# EAGLE library part MSP432E401Y_80PIN_BOOSTER (library MSP432E401Y_Booster)
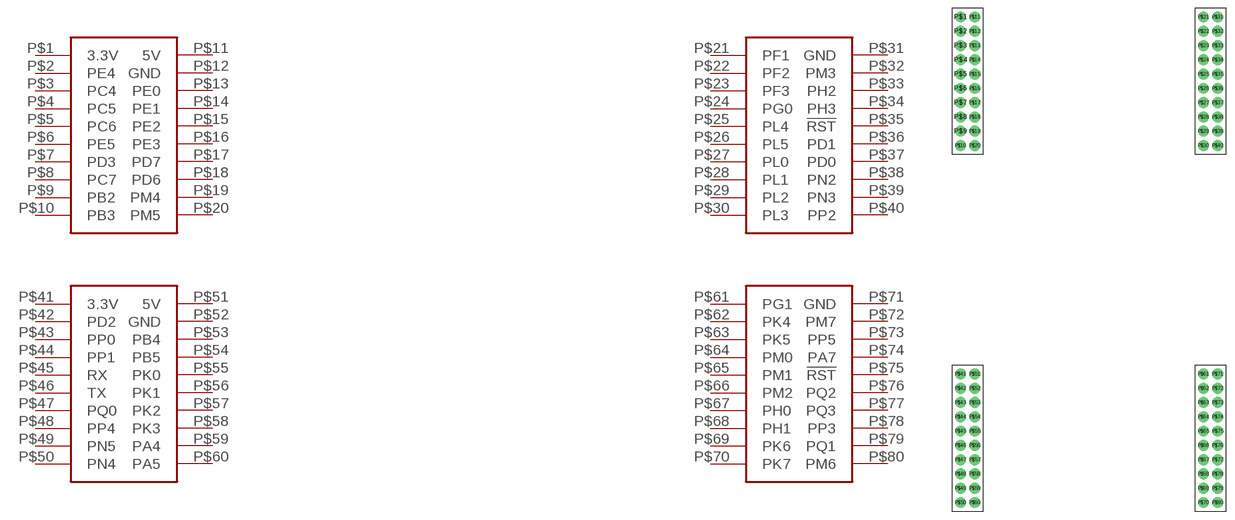
[diagram p0: symbol with the pads of MSP432E401Y_80PIN_BOOSTER; footprint MSP432E401Y_80PIN_BOOSTER]

Designator prefix -

## MSP432E401Y_80PIN_BOOSTER  [MSP432E401Y_80PIN_BOOSTER]
P$1  3.3V
P$2  PE4
P$3  PC4
P$4  PC5
P$5  PC6
P$6  PE5
P$7  PD3
P$8  PC7
P$9  PB2
P$10  PB3
P$11  5V
P$12  GND
P$13  PE0
P$14  PE1
P$15  PE2
P$16  PE3
P$17  PD7
P$18  PD6
P$19  PM4
P$20  PM5
P$21  PF1
P$22  PF2
P$23  PF3
P$24  PG0
P$25  PL4
P$26  PL5
P$27  PL0
P$28  PL1
P$29  PL2
P$30  PL3
P$31  GND
P$32  PM3
P$33  PH2
P$34  PH3
P$35  !RST
P$36  PD1
P$37  PD0
P$38  PN2
P$39  PN3
P$40  PP2
P$41  3.3V
P$42  PD2
P$43  PP0
P$44  PP1
P$45  RX
P$46  TX
P$47  PQ0
P$48  PP4
P$49  PN5
P$50  PN4
P$51  5V
P$52  GND
P$53  PB4
P$54  PB5
P$55  PK0
P$56  PK1
P$57  PK2
P$58  PK3
P$59  PA4
P$60  PA5
P$61  PG1
P$62  PK4
P$63  PK5
P$64  PM0
P$65  PM1
P$66  PM2
P$67  PH0
P$68  PH1
P$69  PK6
P$70  PK7
P$71  GND
P$72  PM7
P$73  PP5
P$74  PA7
P$75  !RST
P$76  PQ2
P$77  PQ3
P$78  PP3
P$79  PQ1
P$80  PM6

## Footprint MSP432E401Y_80PIN_BOOSTER (pad centres in mm)
drill 1.016 pad 1.93: P$1 1.524,-1.524; P$2 1.524,-4.064; P$3 1.524,-6.604; P$4 1.524,-9.144; P$5 1.524,-11.684; P$6 1.524,-14.224; P$7 1.524,-16.764; P$8 1.524,-19.304; P$9 1.524,-21.844; P$10 1.524,-24.384; P$11 4.064,-1.524; P$12 4.064,-4.064; P$13 4.064,-6.604; P$14 4.064,-9.144; P$15 4.064,-11.684; P$16 4.064,-14.224; P$17 4.064,-16.764; P$18 4.064,-19.304; P$19 4.064,-21.844; P$20 4.064,-24.384; P$21 44.704,-1.524; P$22 44.704,-4.064; P$23 44.704,-6.604; P$24 44.704,-9.144; P$25 44.704,-11.684; P$26 44.704,-14.224; P$27 44.704,-16.764; P$28 44.704,-19.304; P$29 44.704,-21.844; P$30 44.704,-24.384; P$31 47.244,-1.524; P$32 47.244,-4.064; P$33 47.244,-6.604; P$34 47.244,-9.144; P$35 47.244,-11.684; P$36 47.244,-14.224; P$37 47.244,-16.764; P$38 47.244,-19.304; P$39 47.244,-21.844; P$40 47.244,-24.384; P$41 1.524,-65.024; P$42 1.524,-67.564; P$43 1.524,-70.104; P$44 1.524,-72.644; P$45 1.524,-75.184; P$46 1.524,-77.724; P$47 1.524,-80.264; P$48 1.524,-82.804; P$49 1.524,-85.344; P$50 1.524,-87.884; P$51 4.064,-65.024; P$52 4.064,-67.564; P$53 4.064,-70.104; P$54 4.064,-72.644; P$55 4.064,-75.184; P$56 4.064,-77.724; P$57 4.064,-80.264; P$58 4.064,-82.804; P$59 4.064,-85.344; P$60 4.064,-87.884; P$61 44.704,-65.024; P$62 44.704,-67.564; P$63 44.704,-70.104; P$64 44.704,-72.644; P$65 44.704,-75.184; P$66 44.704,-77.724; P$67 44.704,-80.264; P$68 44.704,-82.804; P$69 44.704,-85.344; P$70 44.704,-87.884; P$71 47.244,-65.024; P$72 47.244,-67.564; P$73 47.244,-70.104; P$74 47.244,-72.644; P$75 47.244,-75.184; P$76 47.244,-77.724; P$77 47.244,-80.264; P$78 47.244,-82.804; P$79 47.244,-85.344; P$80 47.244,-87.884